# Altium footprint library Inductors.PcbLib: 27 footprints (part 2 of 2)
Each footprint in its own frame and in the unit in brackets; x right, y up, seen from the top. Pads: shape width x height; smd on the part's side, far side on the other; paste and mask are expansions set on the pad; w line width, h text height; cw(c..) or ccw(c..) is an arc to the next point about the centre after c.
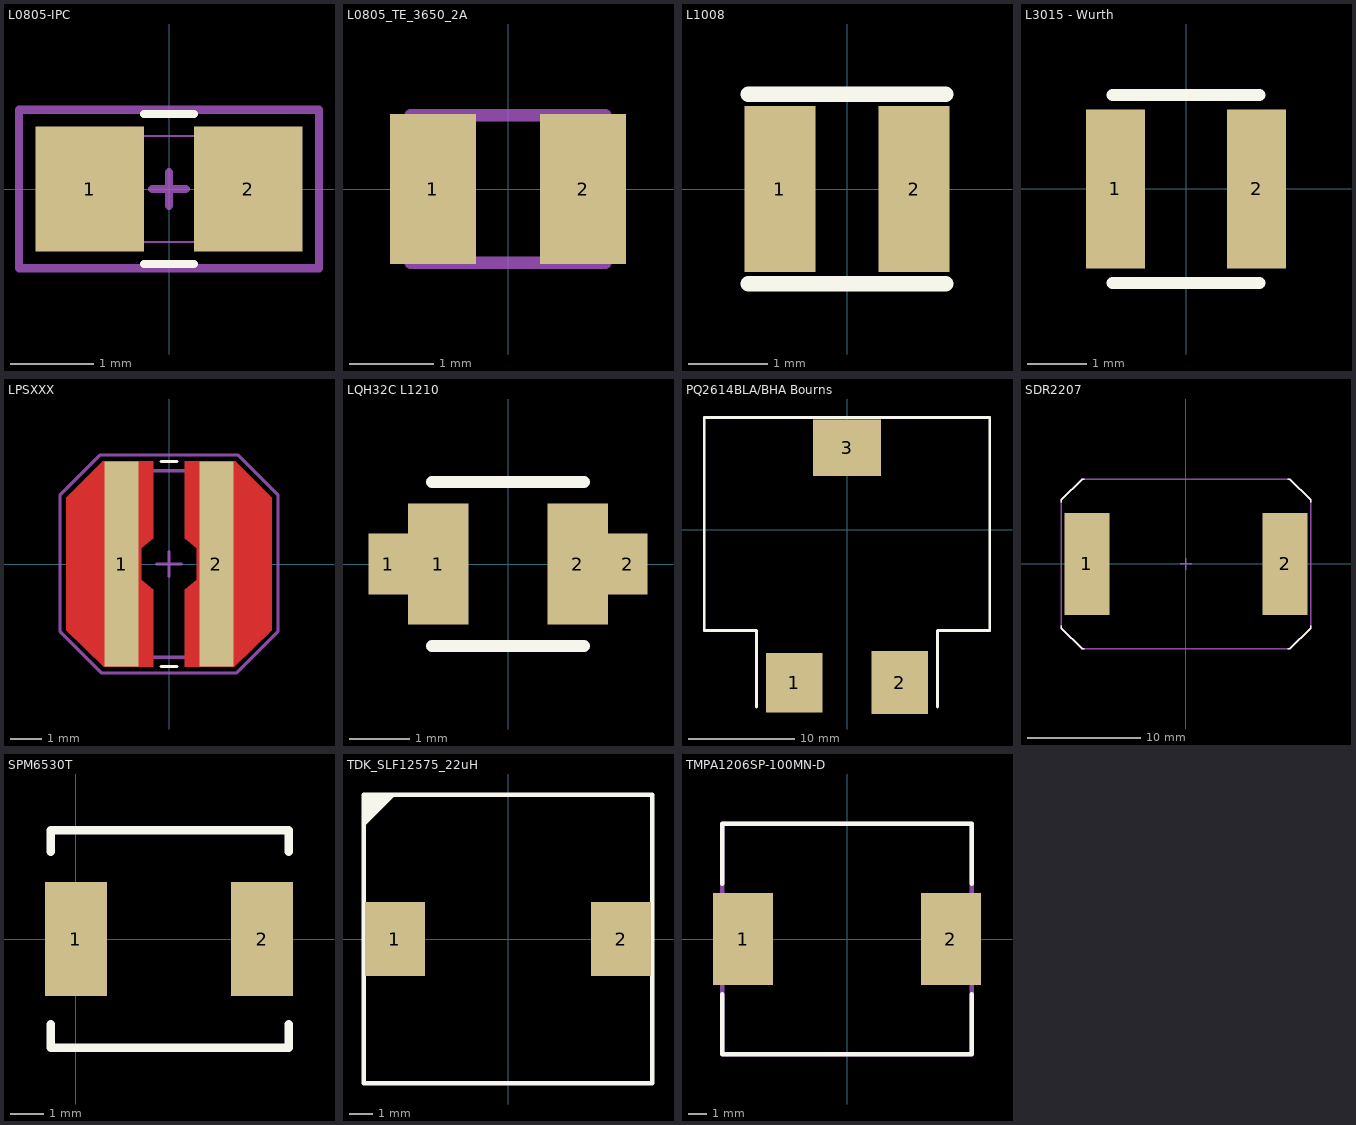
[diagram p1: the footprints below, top view; thin cyan lines are the x and y axes]

## L0805-IPC [mm] "Ferrite Bead 0805"
pads (2):
  rect 1.3x1.5 smd: 1(-0.95,0) 2(0.95,0)
Top Overlay:
  lines w0.1: -0.3,-0.9 0.3,-0.9 ; -0.3,0.9 0.3,0.9
Top Assembly Dwg:
  lines w0.1: -0.2,0 0.2,0 ; 0,-0.2 0,0.2
  text ".Designator" at -2.337,-0.381 h0.38
Top Dimensions and Assembly Info:
  lines w0.025: -1.016,-0.635 -1.016,0.635 1.016,0.635 1.016,-0.635 -1.016,-0.635
Mechanical 15:
  lines w0.1: -1.8,-0.95 1.8,-0.95 1.8,0.95 -1.8,0.95 -1.8,-0.95
3D body "User Library-ind_0805 (1).step": height 0.95, standoff 0, extent -1,-0.6 1,0.6

## L0805_TE_3650_2A [mm]
pads (2):
  rect 1.02x1.78 smd: 1(-0.89,0) 2(0.89,0)
Top Assembly Dwg:
  lines w0.152: -1.15,0.85 -1.15,-0.875 1.15,-0.875 1.15,0.875 -1.15,0.875
  text ".Designator" at -2.337,-0.381 h0.38
3D body "c-4-1624113-1-ba-3d.stp": height 1.54, standoff 0.01, extent -1.145,-0.865 1.145,0.865

## L1008 [mm] "Cyntec SDEM25201B"
pads (2):
  rect 0.9x2.1 smd: 1(-0.85,0) 2(0.85,0)
Top Overlay:
  lines w0.2: -1.25,-1.2 1.25,-1.2 ; -1.25,1.2 1.25,1.2
3D body "Cyntec SDEM25201B L1008 v19.step": height 1.23, standoff 0, extent -1.25,-1 1.25,1

## L3015 - Wurth [mm] "Wurth WE3015"
pads (2):
  rect 1x2.7 smd: 1(-1.2,0) 2(1.2,0)
Top Overlay:
  lines w0.2: -1.25,-1.6 1.25,-1.6 ; -1.25,1.6 1.25,1.6
3D body "74404032010_Download_STP_WE-LQS-3015_rev1.stp": height 1.51, standoff 0.01, extent -1.5,-1.5 1.5,1.5

## LPSXXX [mm] "Coilcraft Inductor, Unkown Size up to LPS6225"
pads (2):
  rect 1.1x6.6 smd mask+0: 1(-1.525,0) 2(1.525,0)
Top Layer:
  region: 0.51,0.825 0.51,3.3 2.125,3.3 3.3,2.125 3.3,-2.125 2.1,-3.3 0.51,-3.3 0.51,-0.825 0.89,-0.51 0.89,0.51
  region: -0.51,0.825 -0.51,3.3 -2.125,3.3 -3.3,2.125 -3.3,-2.125 -2.1,-3.3 -0.51,-3.3 -0.51,-0.825 -0.89,-0.51 -0.89,0.51
Top Overlay:
  lines w0.1: -0.25,-3.3 0.25,-3.3 ; -0.25,3.3 0.25,3.3
Top Paste:
  region: 0.51,0.825 0.51,3.3 2.125,3.3 3.3,2.125 3.3,-2.125 2.1,-3.3 0.51,-3.3 0.51,-0.825 0.89,-0.51 0.89,0.51
  region: -0.51,0.825 -0.51,3.3 -2.125,3.3 -3.3,2.125 -3.3,-2.125 -2.1,-3.3 -0.51,-3.3 -0.51,-0.825 -0.89,-0.51 -0.89,0.51
Top Solder:
  region: -0.79,0.467 -0.41,0.783 -0.41,3.4 -2.175,3.4 -3.4,2.175 -3.4,-2.125 -2.125,-3.4 -0.41,-3.4 -0.41,-0.791 -0.79,-0.476
  region: 0.79,0.467 0.41,0.783 0.41,3.4 2.175,3.4 3.4,2.175 3.4,-2.125 2.125,-3.4 0.41,-3.4 0.41,-0.791 0.79,-0.476
3D Bodies:
  lines w0.1: -3,-2 -2,-3 2,-3 3,-2 3,2 2,3 -2,3 -3,2 -3,-2
Mechanical 15:
  lines w0.1: -0.4,0 0.4,0 ; 0,-0.4 0,0.4 ; -3.5,-2.175 -3.5,2.225 -2.225,3.5 0.125,3.5 2.225,3.5 3.5,2.225 3.5,-2.175 2.175,-3.5 -0.125,-3.5 -2.175,-3.5 -3.5,-2.175
  text ".Designator" at -1.956,-0.279 h0.38
3D body "Coilcraft-LPS6225.step": height 2.5, standoff 0, extent -3.103,-3.103 3.103,3.103

## LQH32C L1210 [mm] "Murata LQH32C Series Inductors"
height 2
pads (4):
  rect 0.65x1 smd: 1(-1.97,0) 2(1.97,0)
  rect 1x2 smd: 1(-1.15,0) 2(1.15,0)
Top Overlay:
  lines w0.2: -1.25,-1.35 1.25,-1.35 ; -1.25,1.35 1.25,1.35
3D body "LQH32CN100K33L v4.step": height 2.2, standoff 0, extent -1.6,-1.25 1.6,1.25

## PQ2614BLA/BHA Bourns [mm] "Bourns PQ2614 Power Inductors"
pads (3):
  rect 5.33x5.59 smd: 1(-4.95,-14.355)
  rect 5.33x5.9 smd: 2(4.95,-14.355)
  rect 6.35x5.28 smd: 3(0,7.68)
Top Overlay:
  lines w0.254: -8.5,-16.65 -8.5,-9.475 -13.4,-9.475 -13.4,10.525 13.4,10.525 13.4,-9.475 8.5,-9.475 8.5,-16.65
3D body "PQ2614BLA Bourns v8.step": height 15, standoff -0.1, extent -13.4,-16.65 13.4,10.525

## SDR2207 [mm] "Bourns SDR2207 100uH Power Inductor"
height 3.5
pads (2):
  rect 4x9 smd: 1(-8.75,0) 2(8.75,0)
Top Overlay:
  lines w0.127: -11,-5.475 -11,-5.675 -9.175,-7.5 -8.975,-7.5 ; -11,5.475 -11,5.675 -9.175,7.5 -8.975,7.5 ; 8.975,-7.5 9.175,-7.5 11,-5.675 11,-5.475 ; 8.975,7.5 9.175,7.5 11,5.675 11,5.475
Mechanical 15:
  lines w0.127: -0.5,0 0.5,0 ; 0,-0.5 0,0 0,0.5 ; -11,-5.675 -11,5.675 -9.175,7.5 9.175,7.5 11,5.675 11,-5.675 9.175,-7.5 -9.175,-7.5 -11,-5.675
3D body "Bourns SDR2207 v2.step": height 6.5, standoff -0.5, extent -11,-7.5 11,7.5

## SPM6530T [mm]
pads (2):
  rect 1.85x3.4 smd: 1(0,0) 2(5.55,0)
Top Overlay:
  lines w0.254: -0.755,-3.25 6.345,-3.25 ; -0.755,3.25 6.345,3.25 ; -0.75,-3.2 -0.75,-2.55 ; -0.75,2.6 -0.75,3.25 ; 6.35,-3.2 6.35,-2.55 ; 6.35,2.6 6.35,3.25

## TDK_SLF12575_22uH [mm] "TDK SLF12575 Power Inductors"
pads (2):
  rect 2.6x3.2 smd: 1(-4.9,0) 2(4.9,0)
Top Overlay:
  region: -6.25,6.25 -6.25,5 -5,6.25
  lines w0.2: -5,6.25 -6.25,5 -6.25,6.25 ; -6.25,6.25 6.25,6.25 6.25,-6.25 -6.25,-6.25 -6.25,6.25
3D body "TDK SLF12575T-220M4R0-PF v9.step": height 7.51, standoff 0, extent -6.25,-6.25 6.25,6.25

## TMPA1206SP-100MN-D [mm] "Taitec 13.5x12.6x5.7mm Shielded Power Inductor"
height 5.7
pads (2):
  rect 3.25x5 smd: 1(-5.625,0) 2(5.625,0)
Top Overlay:
  lines w0.254: -6.75,-3 -6.75,-6.25 6.75,-6.25 6.75,-3 ; -6.75,3 -6.75,6.25 6.75,6.25 6.75,3
Top Assembly Dwg:
  lines w0.254: -6.75,-6.25 -6.75,6.25 6.75,6.25 6.75,-6.25 -6.75,-6.25
  text ".Designator" at -7.75,-1.25 h1.5
3D body "TMPA1206SP-100MN-D 10uH Inductor v6.step": height 5.7, standoff 0, extent -6.9,-6.2 6.8,6.4